# Altium schematic symbol library GMK107BJ104KAHT.SchLib: 1 symbol
Pins are listed as number, name and electrical type; pins without a type are passive.

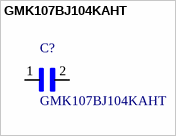
[diagram p0: symbol GMK107BJ104KAHT]

## GMK107BJ104KAHT
designator C?
CAP , MLCC , 0603, 35V , X5R, 0.1uF10% , T&R; MF: Taiyo Yuden; Package: 1608 Taiyo Yuden; Digi-Key_Purchase_URL: https://www.digikey.com/product-detail/en/taiyo-yuden/GMK107BJ104KAHT/587-3357-1-ND/4157244?utm_source=snapeda&utm_medium=aggregator&utm_campaign=symbol; Digi-Key_Part_Number: 587-3357-1-ND; SnapEDA_Link: https://www.snapeda.com/parts/GMK107BJ104KAHT/Taiyo%20Yuden/view-part/?ref=snap; MP: GMK107BJ104KAHT; Value: *
footprint *CAPC1608X90N
pins: 1, 2